# Altium schematic symbol library MCU_Nordic.SchLib: 7 symbols
Pins are listed as number, name and electrical type; pins without a type are passive.

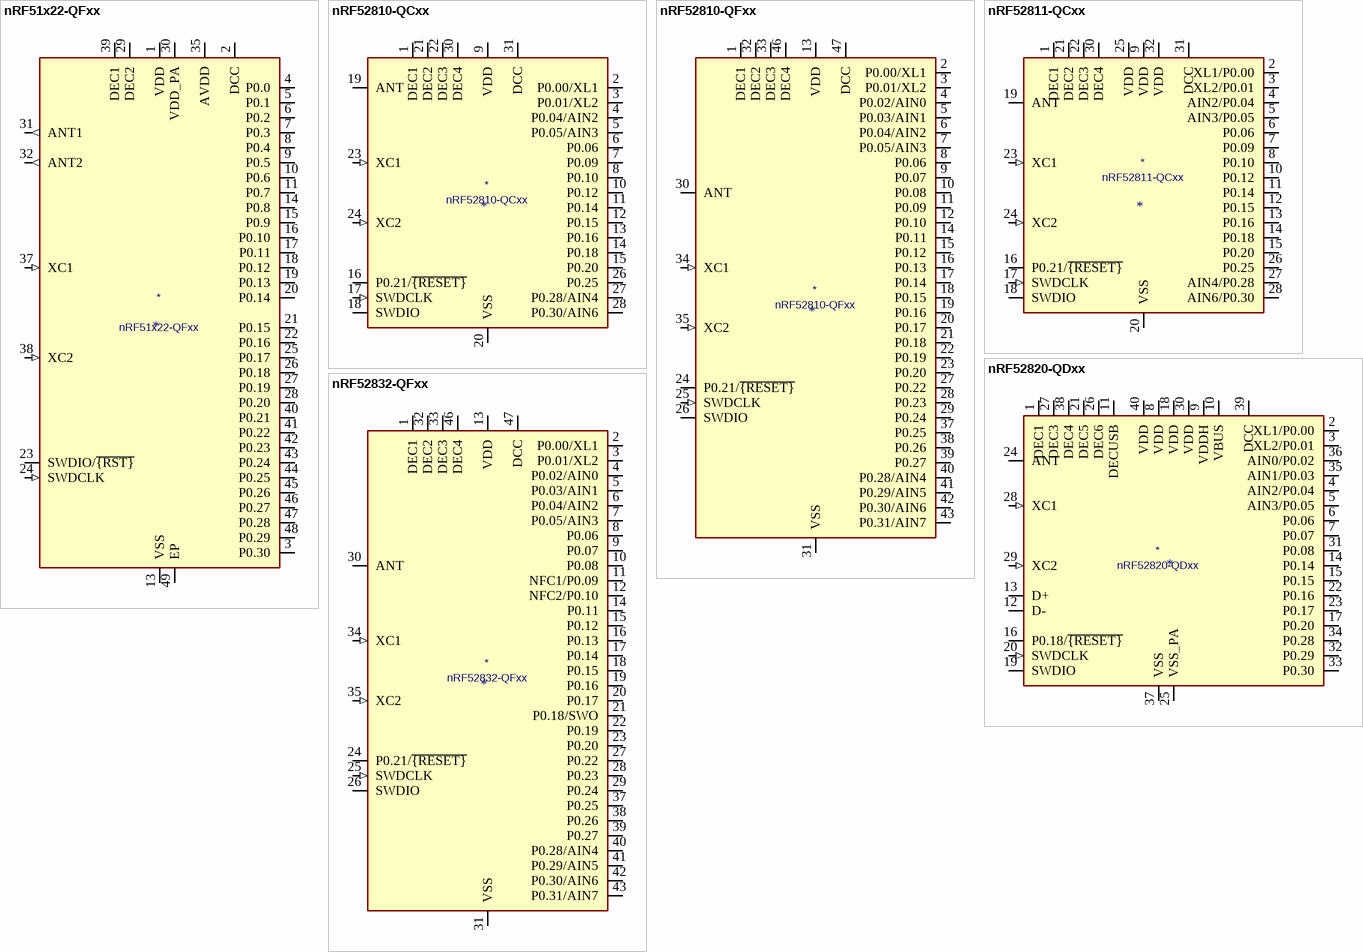
[diagram p0: symbols nRF51x22-QFxx to nRF52832-QFxx]

## nRF51x22-QFxx
designator *  value nRF51x22-QFxx
ki_keywords: MCU, ARM, BLE, 2.4GHz; ki_description: Multiprotocol BLE/2.4GHz Cortex-M0+ SoC; ki_fp_filters: QFN*1EP*6x6mm*P0.4mm*; Footprint: Package_DFN_QFN:QFN-48-1EP_6x6mm_P0.4mm_EP4.6x4.6mm; Supplier: http://infocenter.nordicsemi.com/pdf/nRF51822_PS_v3.3.pdf
footprint QFN-48-1EP_6x6mm_P0.4mm_EP4.6x4.6mm
pins: 1 VDD (power), 2 DCC (power), 3 P0.30 (io), 4 P0.0 (io), 5 P0.1 (io), 6 P0.2 (io), 7 P0.3 (io), 8 P0.4 (io), 9 P0.5 (io), 10 P0.6 (io), 11 P0.7 (io), 12 VDD hidden, 13 VSS (power), 14 P0.8 (io), 15 P0.9 (io), 16 P0.10 (io), 17 P0.11 (io), 18 P0.12 (io), 19 P0.13 (io), 20 P0.14 (io), 21 P0.15 (io), 22 P0.16 (io), 23 SWDIO/~{{RST}} (io), 24 SWDCLK (in), 25 P0.17 (io), 26 P0.18 (io), 27 P0.19 (io), 28 P0.20 (io), 29 DEC2, 30 VDD_PA (power), 31 ANT1 (out), 32 ANT2 (out), 33 VSS hidden, 34 VSS hidden, 35 AVDD (power), 36 AVDD hidden, 37 XC1 (in), 38 XC2 (in), 39 DEC1, 40 P0.21 (io), 41 P0.22 (io), 42 P0.23 (io), 43 P0.24 (io), 44 P0.25 (io), 45 P0.26 (io), 46 P0.27 (io), 47 P0.28 (io), 48 P0.29 (io), 49 EP (power)

## nRF52810-QCxx
designator *  value nRF52810-QCxx
ki_keywords: MCU, ARM, BLE, 2.4GHz; ki_description: Multiprotocol BLE/2.4GHz Cortex-M4 SoC, QFN-32; ki_fp_filters: QFN*1EP*5x5mm*P0.5mm*; Footprint: Package_DFN_QFN:QFN-32-1EP_5x5mm_P0.5mm_EP3.6x3.6mm; Supplier: http://infocenter.nordicsemi.com/pdf/nRF52810_PS_v1.1.pdf
footprint QFN-32-1EP_5x5mm_P0.5mm_EP3.6x3.6mm
pins: 1 DEC1, 2 P0.00/XL1 (io), 3 P0.01/XL2 (io), 4 P0.04/AIN2 (io), 5 P0.05/AIN3 (io), 6 P0.06 (io), 7 P0.09 (io), 8 P0.10 (io), 9 VDD (power), 10 P0.12 (io), 11 P0.14 (io), 12 P0.15 (io), 13 P0.16 (io), 14 P0.18 (io), 15 P0.20 (io), 16 P0.21/~{{RESET}} (io), 17 SWDCLK (in), 18 SWDIO (io), 19 ANT, 20 VSS (power), 21 DEC2, 22 DEC3, 23 XC1 (in), 24 XC2 (in), 25 VDD hidden, 26 P0.25 (io), 27 P0.28/AIN4 (io), 28 P0.30/AIN6 (io), 29 VSS hidden, 30 DEC4, 31 DCC (power), 32 VDD hidden, 33 VSS hidden

## nRF52810-QFxx
designator *  value nRF52810-QFxx
ki_keywords: MCU, ARM, BLE, 2.4GHz; ki_description: Multiprotocol BLE/2.4GHz Cortex-M4 SoC, QFN-48; ki_fp_filters: QFN*1EP*6x6mm*P0.4mm*; Footprint: Package_DFN_QFN:QFN-48-1EP_6x6mm_P0.4mm_EP4.6x4.6mm; Supplier: http://infocenter.nordicsemi.com/pdf/nRF52810_PS_v1.1.pdf
footprint QFN-48-1EP_6x6mm_P0.4mm_EP4.6x4.6mm
pins: 1 DEC1, 2 P0.00/XL1 (io), 3 P0.01/XL2 (io), 4 P0.02/AIN0 (io), 5 P0.03/AIN1 (io), 6 P0.04/AIN2 (io), 7 P0.05/AIN3 (io), 8 P0.06 (io), 9 P0.07 (io), 10 P0.08 (io), 11 P0.09 (io), 12 P0.10 (io), 13 VDD (power), 14 P0.11 (io), 15 P0.12 (io), 16 P0.13 (io), 17 P0.14 (io), 18 P0.15 (io), 19 P0.16 (io), 20 P0.17 (io), 21 P0.18 (io), 22 P0.19 (io), 23 P0.20 (io), 24 P0.21/~{{RESET}} (io), 25 SWDCLK (in), 26 SWDIO (io), 27 P0.22 (io), 28 P0.23 (io), 29 P0.24 (io), 30 ANT, 31 VSS (power), 32 DEC2, 33 DEC3, 34 XC1 (in), 35 XC2 (in), 36 VDD hidden, 37 P0.25 (io), 38 P0.26 (io), 39 P0.27 (io), 40 P0.28/AIN4 (io), 41 P0.29/AIN5 (io), 42 P0.30/AIN6 (io), 43 P0.31/AIN7 (io), 44 NC (in) hidden, 45 VSS hidden, 46 DEC4, 47 DCC (power), 48 VDD hidden, 49 VSS hidden

## nRF52811-QCxx
designator *  value nRF52811-QCxx
ki_keywords: MCU, ARM, BLE, ANT, 2.4GHz, 802.15.4; ki_description: Multiprotocol BLE/ANT/2.4 GHz/802.15.4 Cortex-M4F SoC, QFN-32; ki_fp_filters: QFN*1EP*5x5mm*P0.5mm*; Footprint: Package_DFN_QFN:QFN-32-1EP_5x5mm_P0.5mm_EP3.6x3.6mm_ThermalVias; Supplier: https://infocenter.nordicsemi.com/pdf/nRF52811_PS_v1.0.pdf
footprint QFN-32-1EP_5x5mm_P0.5mm_EP3.6x3.6mm_ThermalVias
pins: 1 DEC1, 2 XL1/P0.00 (io), 3 XL2/P0.01 (io), 4 AIN2/P0.04 (io), 5 AIN3/P0.05 (io), 6 P0.06 (io), 7 P0.09 (io), 8 P0.10 (io), 9 VDD (power), 10 P0.12 (io), 11 P0.14 (io), 12 P0.15 (io), 13 P0.16 (io), 14 P0.18 (io), 15 P0.20 (io), 16 P0.21/~{{RESET}} (io), 17 SWDCLK (in), 18 SWDIO (io), 19 ANT, 20 VSS (power), 21 DEC2, 22 DEC3, 23 XC1 (in), 24 XC2 (in), 25 VDD (power), 26 P0.25 (io), 27 AIN4/P0.28 (io), 28 AIN6/P0.30 (io), 29 VSS hidden, 30 DEC4, 31 DCC (power), 32 VDD (power), 33 VSS hidden

## nRF52820-QDxx
designator *  value nRF52820-QDxx
ki_keywords: MCU, ARM, BLE, ANT, 2.4GHz, 802.15.4; ki_description: Multiprotocol BLE/ANT/2.4 GHz/802.15.4 Cortex-M4 SoC, QFN-40; ki_fp_filters: QFN*1EP*5x5mm*P0.4mm*; Footprint: Package_DFN_QFN:QFN-40-1EP_5x5mm_P0.4mm_EP3.6x3.6mm; Supplier: https://infocenter.nordicsemi.com/pdf/nRF52820_PS_v1.0.pdf
footprint QFN-40-1EP_5x5mm_P0.4mm_EP3.6x3.6mm
pins: 1 DEC1, 2 XL1/P0.00 (io), 3 XL2/P0.01 (io), 4 AIN2/P0.04 (io), 5 AIN3/P0.05 (io), 6 P0.06 (io), 7 P0.07 (io), 8 VDD (power), 9 VDDH (power), 10 VBUS (power), 11 DECUSB, 12 D- (io), 13 D+ (io), 14 P0.14 (io), 15 P0.15 (io), 16 P0.18/~{{RESET}} (io), 17 P0.20 (io), 18 VDD (power), 19 SWDIO (io), 20 SWDCLK (in), 21 DEC5, 22 P0.16 (io), 23 P0.17 (io), 24 ANT, 25 VSS_PA (power), 26 DEC6, 27 DEC3, 28 XC1 (in), 29 XC2 (in), 30 VDD (power), 31 P0.08 (io), 32 P0.29 (io), 33 P0.30 (io), 34 P0.28 (io), 35 AIN1/P0.03 (io), 36 AIN0/P0.02 (io), 37 VSS (power), 38 DEC4, 39 DCC (power), 40 VDD (power), 41 VSS hidden

## nRF52832-QFxx
designator *  value nRF52832-QFxx
ki_keywords: MCU, ARM, BLE, 2.4GHz; ki_description: Multiprotocol BLE/2.4GHz Cortex-M4 SoC, QFN-48; ki_fp_filters: QFN*1EP*6x6mm*P0.4mm*; Footprint: Package_DFN_QFN:QFN-48-1EP_6x6mm_P0.4mm_EP4.6x4.6mm; Supplier: http://infocenter.nordicsemi.com/pdf/nRF52832_PS_v1.4.pdf
footprint QFN-48-1EP_6x6mm_P0.4mm_EP4.6x4.6mm
pins: 1 DEC1, 2 P0.00/XL1 (io), 3 P0.01/XL2 (io), 4 P0.02/AIN0 (io), 5 P0.03/AIN1 (io), 6 P0.04/AIN2 (io), 7 P0.05/AIN3 (io), 8 P0.06 (io), 9 P0.07 (io), 10 P0.08 (io), 11 NFC1/P0.09 (io), 12 NFC2/P0.10 (io), 13 VDD (power), 14 P0.11 (io), 15 P0.12 (io), 16 P0.13 (io), 17 P0.14 (io), 18 P0.15 (io), 19 P0.16 (io), 20 P0.17 (io), 21 P0.18/SWO (io), 22 P0.19 (io), 23 P0.20 (io), 24 P0.21/~{{RESET}} (io), 25 SWDCLK (in), 26 SWDIO (io), 27 P0.22 (io), 28 P0.23 (io), 29 P0.24 (io), 30 ANT, 31 VSS (power), 32 DEC2, 33 DEC3, 34 XC1 (in), 35 XC2 (in), 36 VDD hidden, 37 P0.25 (io), 38 P0.26 (io), 39 P0.27 (io), 40 P0.28/AIN4 (io), 41 P0.29/AIN5 (io), 42 P0.30/AIN6 (io), 43 P0.31/AIN7 (io), 44 NC (in) hidden, 45 VSS hidden, 46 DEC4, 47 DCC (power), 48 VDD hidden, 49 VSS hidden

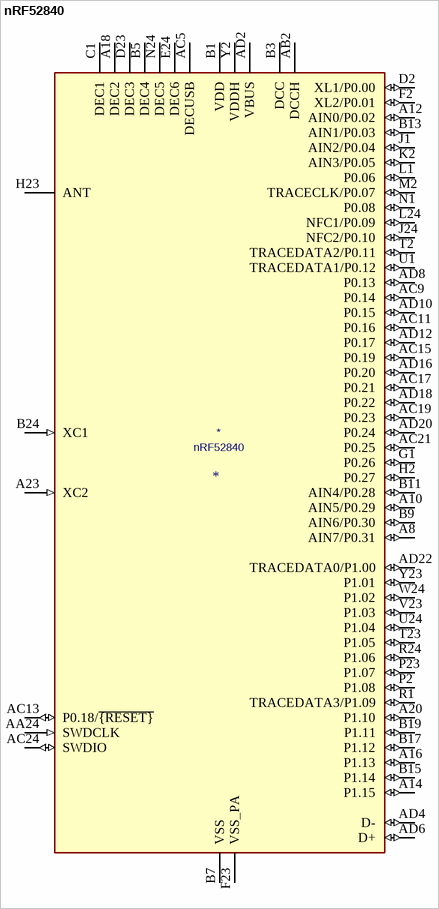
[diagram p1: symbol nRF52840]

## nRF52840
designator *  value nRF52840
ki_keywords: MCU, ARM, BLE, ANT, 2.4GHz, 802.15.4; ki_description: Multiprotocol BLE/ANT/2.4 GHz/802.15.4 Cortex-M4F SoC, AQFN-73; ki_fp_filters: Nordic*AQFN*1EP*7x7mm*P0.5mm*; Footprint: Package_DFN_QFN:Nordic_AQFN-73-1EP_7x7mm_P0.5mm; Supplier: http://infocenter.nordicsemi.com/topic/com.nordic.infocenter.nrf52/dita/nrf52/chips/nrf52840.html
footprint Nordic_AQFN-73-1EP_7x7mm_P0.5mm
pins: A8 AIN7/P0.31 (io), A10 AIN5/P0.29 (io), A12 AIN0/P0.02 (io), A14 P1.15 (io), A16 P1.13 (io), A18 DEC2, A20 P1.10 (io), A22 VDD hidden, A23 XC2 (in), AA24 SWDCLK (in), AB2 DCCH (power), AC5 DECUSB, AC9 P0.14 (io), AC11 P0.16 (io), AC13 P0.18/~{{RESET}} (io), AC15 P0.19 (io), AC17 P0.21 (io), AC19 P0.23 (io), AC21 P0.25 (io), AC24 SWDIO (io), AD2 VBUS (power), AD4 D- (io), AD6 D+ (io), AD8 P0.13 (io), AD10 P0.15 (io), AD12 P0.17 (io), AD14 VDD hidden, AD16 P0.20 (io), AD18 P0.22 (io), AD20 P0.24 (io), AD22 TRACEDATA0/P1.00 (io), AD23 VDD hidden, B1 VDD (power), B3 DCC (power), B5 DEC4, B7 VSS (power), B9 AIN6/P0.30 (io), B11 AIN4/P0.28 (io), B13 AIN1/P0.03 (io), B15 P1.14 (io), B17 P1.12 (io), B19 P1.11 (io), B24 XC1 (in), C1 DEC1, D2 XL1/P0.00 (io), D23 DEC3, E24 DEC6, EP VSS hidden, F2 XL2/P0.01 (io), F23 VSS_PA (power), G1 P0.26 (io), H2 P0.27 (io), H23 ANT, J1 AIN2/P0.04 (io), J24 NFC2/P0.10 (io), K2 AIN3/P0.05 (io), L1 P0.06 (io), L24 NFC1/P0.09 (io), M2 TRACECLK/P0.07 (io), N1 P0.08 (io), N24 DEC5, P2 P1.08 (io), P23 P1.07 (io), R1 TRACEDATA3/P1.09 (io), R24 P1.06 (io), T2 TRACEDATA2/P0.11 (io), T23 P1.05 (io), U1 TRACEDATA1/P0.12 (io), U24 P1.04 (io), V23 P1.03 (io), W1 VDD hidden, W24 P1.02 (io), Y2 VDDH (power), Y23 P1.01 (io)